# Altium footprint library GP2Y1010AU0F.PcbLib: 1 footprints
Each footprint in its own frame and in the unit in brackets; x right, y up, seen from the top. Pads: shape width x height; smd on the part's side, far side on the other; paste and mask are expansions set on the pad; w line width, h text height; cw(c..) or ccw(c..) is an arc to the next point about the centre after c.
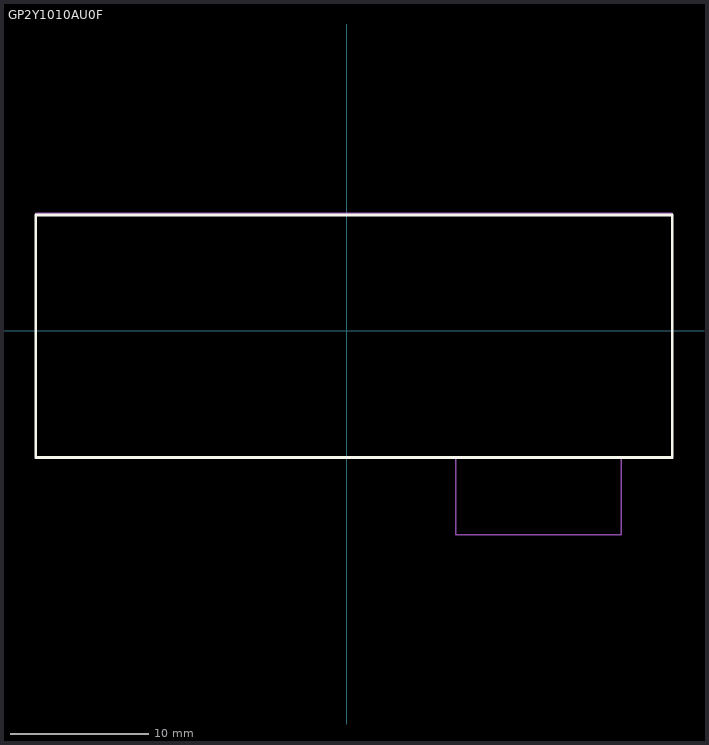
[diagram p0: the footprint, top view; thin cyan lines are the x and y axes]

## GP2Y1010AU0F [mm] "GP2Y1010AU0F is a dust sensor by optical sensing  system."
height 17.6
Top Overlay:
  lines w0.203: -22.479,-9.144 -22.479,8.382 23.495,8.382 23.495,-9.144 -22.479,-9.144
Mechanical 13:
  lines w0.1: 7.874,-9.144 7.874,-14.741 19.812,-14.741 19.812,-9.144
  lines w0.102: -22.479,-9.144 -22.479,8.382 23.495,8.382 23.495,-9.144 -22.479,-9.144
Mechanical 15:
  lines w0.102: -22.479,-9.144 23.495,-9.144 23.495,8.509 -22.479,8.509 -22.479,-9.144
3D body: height 32.02, standoff -1.98, extent -22.365,-8.882 23.635,8.128